# EAGLE library part ICSP_6P (library CASE-Prog_Header)
ICSP-6P Programming header Description: ICSP-6P Programming header in 2.54mm pin header
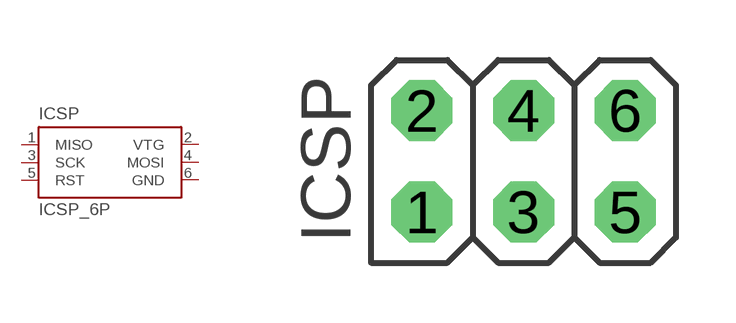
[diagram p1: symbol with the pads of 2X03_ICSP; footprint 2X03_ICSP]

Designator prefix ICSP

## ICSP_6P  [2X03_ICSP]
1  MISO
2  VTG
3  SCK
4  MOSI
5  RST
6  GND

## Footprint 2X03_ICSP (pad centres in mm)
PIN HEADER
drill 1.016 octagon: 1 -2.54,-1.27; 2 -2.54,1.27; 3 0,-1.27; 4 0,1.27; 5 2.54,-1.27; 6 2.54,1.27